# EAGLE library part PRI1_PRI2_SEC1 (library toroid_transformers)
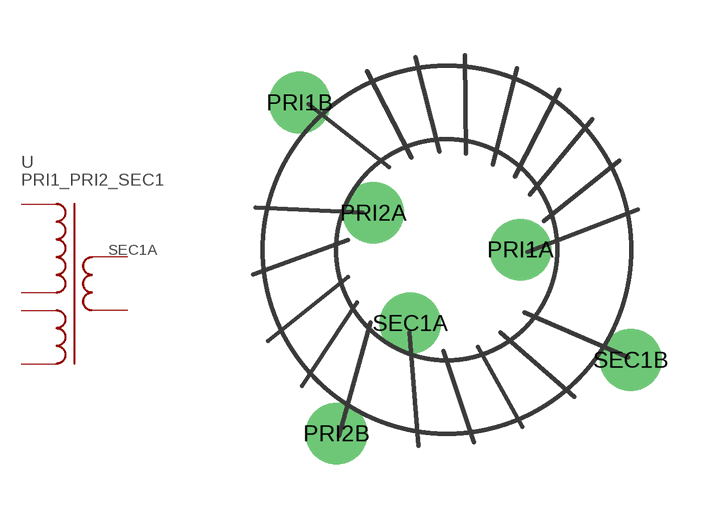
[diagram p0: symbol with the pads of 3WINDINGS_10MM; footprint 3WINDINGS_10MM]

Designator prefix -

## PRI1_PRI2_SEC1  [3WINDINGS_10MM]
PRI1A  PRI1A
PRI1B  PRI1B
PRI2A  PRI2A
PRI2B  PRI2B
SEC1A  SEC1A
SEC1B  SEC1B

## Footprint 3WINDINGS_10MM (pad centres in mm)
drill 0.8 pad 1.676: PRI1A 2,0; PRI1B -4,4; PRI2A -2,1; PRI2B -3,-5; SEC1A -1,-2; SEC1B 5,-3